# Altium footprint library Alt_git.PcbLib: 89 footprints (part 3 of 6)
Each footprint in its own frame and in the unit in brackets; x right, y up, seen from the top. Pads: shape width x height; smd on the part's side, far side on the other; paste and mask are expansions set on the pad; w line width, h text height; cw(c..) or ccw(c..) is an arc to the next point about the centre after c.
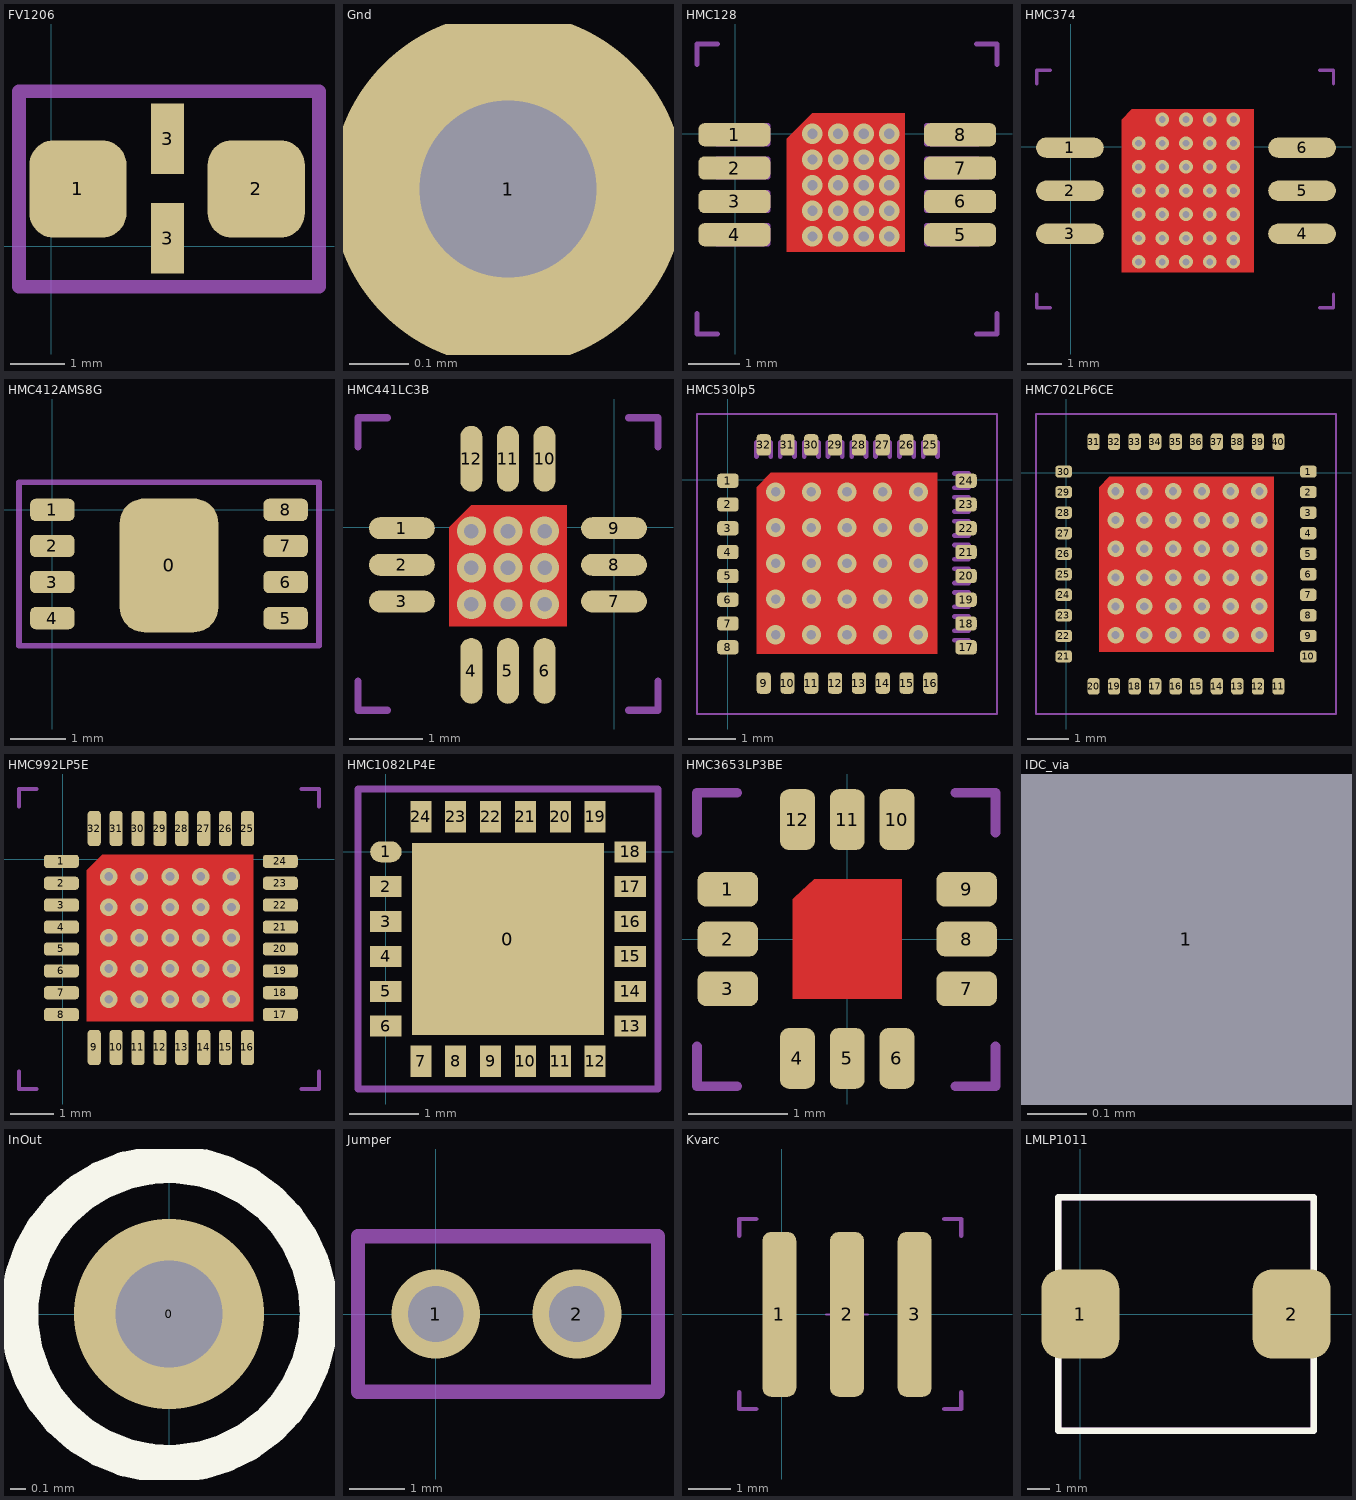
[diagram p2: the footprints below, top view; thin cyan lines are the x and y axes]

## FV1206 [mm]
pads (4):
  rrect50% 1.8x1.8 smd paste+0: 1(0.49,1.06) 2(3.79,1.06)
  rect 0.61x1.3 smd: 3(2.15,0.15) 3(2.15,1.99)
Mechanical 15:
  lines w0.254: 4.95,2.84 4.95,-0.75 -0.6,-0.75 -0.6,2.87 4.95,2.87
3D body: height 0.55, standoff 0, extent 0.57,0.24 3.67,1.84

## Gnd [mm]
pads (1):
  rect 0.2x0.2 smd paste+0: 1(0,0)
via 0,0 diameter 0.6 hole 0.3

## HMC128 [mm]
pads (8):
  rrect50% 1.4x0.45 smd: 1(-0.02,-0.017) 2(-0.02,-0.667) 3(-0.02,-1.317) 4(-0.02,-1.967) 5(4.38,-1.967) 6(4.38,-1.317) 7(4.38,-0.667) 8(4.38,-0.017)
via 1.5,0 diameter 0.4 hole 0.2
via 1.5,-1 diameter 0.4 hole 0.2
via 1.5,-0.5 diameter 0.4 hole 0.2
via 1.5,-1.5 diameter 0.4 hole 0.2
via 1.5,-2 diameter 0.4 hole 0.2
via 2,0 diameter 0.4 hole 0.2
via 2,-1 diameter 0.4 hole 0.2
via 2,-0.5 diameter 0.4 hole 0.2
via 2,-1.5 diameter 0.4 hole 0.2
via 2,-2 diameter 0.4 hole 0.2
via 2.5,0 diameter 0.4 hole 0.2
via 2.5,-1 diameter 0.4 hole 0.2
via 2.5,-0.5 diameter 0.4 hole 0.2
via 2.5,-1.5 diameter 0.4 hole 0.2
via 2.5,-2 diameter 0.4 hole 0.2
via 3,-2 diameter 0.4 hole 0.2
via 3,-1.5 diameter 0.4 hole 0.2
via 3,-0.5 diameter 0.4 hole 0.2
via 3,-1 diameter 0.4 hole 0.2
via 3,0 diameter 0.4 hole 0.2
Top Layer:
  region: 3.3,-2.3 3.3,0.4 1.5,0.4 1,-0.1 1,-2.3
Mechanical 4:
  lines w0.1: -0.37,-2.142 -0.37,-1.792 0.63,-1.792 0.63,-2.142 -0.37,-2.142 ; -0.37,-1.492 -0.37,-1.142 0.63,-1.142 0.63,-1.492 -0.37,-1.492 ; -0.37,-0.842 -0.37,-0.492 0.63,-0.492 0.63,-0.842 -0.37,-0.842 ; -0.37,-0.192 -0.37,0.158 0.63,0.158 0.63,-0.192 -0.37,-0.192 ; 3.73,-2.142 3.73,-1.792 4.73,-1.792 4.73,-2.142 3.73,-2.142 ; 3.73,-1.492 3.73,-1.142 4.73,-1.142 4.73,-1.492 3.73,-1.492 ; 3.73,-0.842 3.73,-0.492 4.73,-0.492 4.73,-0.842 3.73,-0.842 ; 3.73,-0.192 3.73,0.158 4.73,0.158 4.73,-0.192 3.73,-0.192
Mechanical 15:
  lines w0.1: -0.75,-3.5 -0.75,-3.9 -0.35,-3.9 ; -0.75,1.35 -0.75,1.75 -0.35,1.75 ; 4.7,-3.9 5.1,-3.9 5.1,-3.5 ; 4.7,1.75 5.1,1.75 5.1,1.35
3D body: height 1.5, standoff 0, extent 0.525,-2.65 3.825,0.65

## HMC374 [mm]
pads (6):
  oval 2x0.6 smd: 1(-0.025,-0.03) 2(-0.025,-1.3) 3(-0.025,-2.57) 4(6.825,-2.57) 5(6.825,-1.3) 6(6.825,-0.03)
via 4.8,-3.4 diameter 0.4 hole 0.2
via 4.8,-2.7 diameter 0.4 hole 0.2
via 4.8,-2 diameter 0.4 hole 0.2
via 4.8,-1.3 diameter 0.4 hole 0.2
via 4.8,-0.6 diameter 0.4 hole 0.2
via 4.8,0.1 diameter 0.4 hole 0.2
via 4.8,0.8 diameter 0.4 hole 0.2
via 4.1,0.8 diameter 0.4 hole 0.2
via 4.1,0.1 diameter 0.4 hole 0.2
via 4.1,-0.6 diameter 0.4 hole 0.2
via 4.1,-1.3 diameter 0.4 hole 0.2
via 4.1,-2 diameter 0.4 hole 0.2
via 4.1,-2.7 diameter 0.4 hole 0.2
via 4.1,-3.4 diameter 0.4 hole 0.2
via 3.4,0.8 diameter 0.4 hole 0.2
via 3.4,0.1 diameter 0.4 hole 0.2
via 3.4,-0.6 diameter 0.4 hole 0.2
via 3.4,-1.3 diameter 0.4 hole 0.2
via 3.4,-2 diameter 0.4 hole 0.2
via 3.4,-2.7 diameter 0.4 hole 0.2
via 3.4,-3.4 diameter 0.4 hole 0.2
via 2.7,0.8 diameter 0.4 hole 0.2
via 2.7,0.1 diameter 0.4 hole 0.2
via 2.7,-0.6 diameter 0.4 hole 0.2
via 2.7,-1.3 diameter 0.4 hole 0.2
via 2.7,-2 diameter 0.4 hole 0.2
via 2.7,-2.7 diameter 0.4 hole 0.2
via 2.7,-3.4 diameter 0.4 hole 0.2
via 2,0.1 diameter 0.4 hole 0.2
via 2,-0.6 diameter 0.4 hole 0.2
via 2,-1.3 diameter 0.4 hole 0.2
via 2,-2 diameter 0.4 hole 0.2
via 2,-2.7 diameter 0.4 hole 0.2
via 2,-3.4 diameter 0.4 hole 0.2
Top Layer:
  region: 5.4,-3.7 5.4,1.1 1.8,1.1 1.5,0.8 1.5,-3.7
Mechanical 15:
  lines w0.1: -1,-4.35 -1,-4.75 -0.6,-4.75 ; -1,1.85 -1,2.25 -0.6,2.25 ; 7.35,-4.75 7.75,-4.75 7.75,-4.35 ; 7.35,2.25 7.75,2.25 7.75,1.85
3D body: height 1, standoff 0, extent 0,-4.05 6.8,1.45

## HMC412AMS8G [mm]
pads (9):
  rrect50% 1.78x2.41 smd paste+0: 0(2.1,-1)
  rrect50% 0.8x0.4 smd paste+0: 1(0,0) 2(0,-0.65) 3(0,-1.3) 4(0,-1.95) 5(4.2,-1.95) 6(4.2,-1.3) 7(4.2,-0.65) 8(4.2,0)
Mechanical 15:
  lines w0.1: -0.6,-2.45 4.8,-2.45 4.8,0.5 -0.6,0.5 -0.6,-2.45

## HMC441LC3B [mm]
pads (13):
  oval 0.9x0.3 smd: 1(-2.901,-0.011) 2(-2.901,-0.511) 3(-2.901,-1.011) 7(-0.001,-1.011) 8(-0.001,-0.511) 9(-0.001,-0.011)
  oval 0.3x0.9 smd: 4(-1.951,-1.961) 5(-1.451,-1.961) 6(-0.951,-1.961) 10(-0.951,0.939) 11(-1.451,0.939) 12(-1.951,0.939)
  round 0 smd paste-25.4 mask-25.4: 13(-1.401,-0.461)
via -1.95,-1.05 diameter 0.4 hole 0.2
via -1.45,-1.05 diameter 0.4 hole 0.2
via -0.95,-1.05 diameter 0.4 hole 0.2
via -1.95,-0.55 diameter 0.4 hole 0.2
via -1.45,-0.55 diameter 0.4 hole 0.2
via -0.95,-0.55 diameter 0.4 hole 0.2
via -1.95,-0.05 diameter 0.4 hole 0.2
via -1.45,-0.05 diameter 0.4 hole 0.2
via -0.95,-0.05 diameter 0.4 hole 0.2
Top Layer:
  region: -0.65,-1.35 -0.65,0.3 -1.95,0.3 -2.25,0 -2.25,-1.35
Mechanical 15:
  lines w0.1: -3.5,-2.1 -3.5,-2.5 -3.1,-2.5 ; -3.5,1.1 -3.5,1.5 -3.1,1.5 ; 0.2,-2.5 0.6,-2.5 0.6,-2.1 ; 0.2,1.5 0.6,1.5 0.6,1.1
BrdComp:
  lines w0.05: -1.901,-0.461 -0.901,-0.461 ; -1.401,-0.961 -1.401,0.039

## HMC530lp5 [mm]
pads (33):
  rrect50% 0.45x0.3 smd: 1(0,-0.014) 2(0,-0.514) 3(0,-1.014) 4(0,-1.514) 5(0,-2.014) 6(0,-2.514) 7(0,-3.014) 8(0,-3.514) 17(5,-3.514) 18(5,-3.014) 19(5,-2.514) 20(5,-2.014) 21(5,-1.514) 22(5,-1.014) 23(5,-0.514) 24(5,-0.014)
  rrect50% 0.3x0.45 smd: 9(0.75,-4.264) 10(1.25,-4.264) 11(1.75,-4.264) 12(2.25,-4.264) 13(2.75,-4.264) 14(3.25,-4.264) 15(3.75,-4.264) 16(4.25,-4.264) 25(4.25,0.736) 26(3.75,0.736) 27(3.25,0.736) 28(2.75,0.736) 29(2.25,0.736) 30(1.75,0.736) 31(1.25,0.736) 32(0.75,0.736)
  round 0 smd paste-25.4 mask-25.4: 33(2.4,-1.864)
via 4,-0.25 diameter 0.4 hole 0.2
via 4,-1 diameter 0.4 hole 0.2
via 4,-1.75 diameter 0.4 hole 0.2
via 4,-2.5 diameter 0.4 hole 0.2
via 4,-3.25 diameter 0.4 hole 0.2
via 3.25,-3.25 diameter 0.4 hole 0.2
via 3.25,-2.5 diameter 0.4 hole 0.2
via 3.25,-1.75 diameter 0.4 hole 0.2
via 3.25,-1 diameter 0.4 hole 0.2
via 3.25,-0.25 diameter 0.4 hole 0.2
via 2.5,-0.25 diameter 0.4 hole 0.2
via 1,-0.25 diameter 0.4 hole 0.2
via 2.5,-1 diameter 0.4 hole 0.2
via 2.5,-1.75 diameter 0.4 hole 0.2
via 2.5,-2.5 diameter 0.4 hole 0.2
via 2.5,-3.25 diameter 0.4 hole 0.2
via 1.75,-0.25 diameter 0.4 hole 0.2
via 1.75,-1 diameter 0.4 hole 0.2
via 1.75,-1.75 diameter 0.4 hole 0.2
via 1.75,-2.5 diameter 0.4 hole 0.2
via 1.75,-3.25 diameter 0.4 hole 0.2
via 1,-1 diameter 0.4 hole 0.2
via 1,-1.75 diameter 0.4 hole 0.2
via 1,-2.5 diameter 0.4 hole 0.2
via 1,-3.25 diameter 0.4 hole 0.2
Top Layer:
  region: 4.4,-3.65 4.4,0.15 0.9,0.15 0.6,-0.15 0.6,-3.65
Mechanical 4:
  lines w0.1: 0.6,0.486 0.6,0.786 ; 0.9,0.486 0.9,0.786 ; 1.1,0.486 1.1,0.786 ; 1.4,0.486 1.4,0.786 ; 1.6,0.486 1.6,0.786 ; 1.9,0.486 1.9,0.786 ; 2.1,0.486 2.1,0.786 ; 2.4,0.486 2.4,0.786 ; 2.6,0.486 2.6,0.786 ; 2.9,0.486 2.9,0.786 ; 3.1,0.486 3.1,0.786 ; 3.4,0.486 3.4,0.786 ; 3.6,0.486 3.6,0.786 ; 3.9,0.486 3.9,0.786 ; 4.1,0.486 4.1,0.786 ; 4.4,0.486 4.4,0.786 ; 4.75,-3.364 5.05,-3.364 ; 4.75,-3.164 5.05,-3.164 ; 4.75,-2.864 5.05,-2.864 ; 4.75,-2.664 5.05,-2.664 ; 4.75,-2.364 5.05,-2.364 ; 4.75,-2.164 5.05,-2.164 ; 4.75,-1.864 5.05,-1.864 ; 4.75,-1.664 5.05,-1.664 ; 4.75,-1.364 5.05,-1.364 ; 4.75,-1.164 5.05,-1.164 ; 4.75,-0.864 5.05,-0.864 ; 4.75,-0.664 5.05,-0.664 ; 4.75,-0.364 5.05,-0.364 ; 4.75,-0.164 5.05,-0.164 ; 4.75,0.136 5.05,0.136
BrdComp:
  lines w0.05: -0.65,-4.914 -0.65,1.386 5.65,1.386 5.65,-4.914 -0.65,-4.914
3D body: height 0.9, standoff 0, extent -0.55,-4.8 5.55,1.3

## HMC702LP6CE [mm]
pads (42):
  rrect50% 0.4x0.3 smd: 1(5.889,0.031) 2(5.889,-0.469) 3(5.889,-0.969) 4(5.889,-1.469) 5(5.889,-1.969) 6(5.889,-2.469) 7(5.889,-2.969) 8(5.889,-3.469) 9(5.889,-3.969) 10(5.889,-4.469) 21(-0.061,-4.469) 22(-0.061,-3.969) 23(-0.061,-3.469) 24(-0.061,-2.969) 25(-0.061,-2.469) 26(-0.061,-1.969) 27(-0.061,-1.469) 28(-0.061,-0.969) 29(-0.061,-0.469) 30(-0.061,0.031)
  rrect50% 0.3x0.4 smd: 11(5.164,-5.194) 12(4.664,-5.194) 13(4.164,-5.194) 14(3.664,-5.194) 15(3.164,-5.194) 16(2.664,-5.194) 17(2.164,-5.194) 18(1.664,-5.194) 19(1.164,-5.194) 20(0.664,-5.194) 31(0.664,0.756) 32(1.164,0.756) 33(1.664,0.756) 34(2.164,0.756) 35(2.664,0.756) 36(3.164,0.756) 37(3.664,0.756) 38(4.164,0.756) 39(4.664,0.756) 40(5.164,0.756)
  round 0 smd paste-25.4 mask-25.4: 33(3.2,-1.964) 41(3.014,-2.119)
via 4.7,-0.45 diameter 0.4 hole 0.2
via 4.7,-1.15 diameter 0.4 hole 0.2
via 4.7,-1.85 diameter 0.4 hole 0.2
via 4.7,-2.55 diameter 0.4 hole 0.2
via 4.7,-3.25 diameter 0.4 hole 0.2
via 4,-3.25 diameter 0.4 hole 0.2
via 4,-2.55 diameter 0.4 hole 0.2
via 4,-1.85 diameter 0.4 hole 0.2
via 4,-1.15 diameter 0.4 hole 0.2
via 4,-0.45 diameter 0.4 hole 0.2
via 3.3,-0.45 diameter 0.4 hole 0.2
via 3.3,-1.15 diameter 0.4 hole 0.2
via 3.3,-1.85 diameter 0.4 hole 0.2
via 3.3,-2.55 diameter 0.4 hole 0.2
via 3.3,-3.25 diameter 0.4 hole 0.2
via 2.6,-0.45 diameter 0.4 hole 0.2
via 2.6,-1.15 diameter 0.4 hole 0.2
via 2.6,-1.85 diameter 0.4 hole 0.2
via 2.6,-2.55 diameter 0.4 hole 0.2
via 2.6,-3.25 diameter 0.4 hole 0.2
via 1.9,-1.15 diameter 0.4 hole 0.2
via 1.9,-1.85 diameter 0.4 hole 0.2
via 1.9,-2.55 diameter 0.4 hole 0.2
via 1.9,-3.25 diameter 0.4 hole 0.2
via 4.7,-3.95 diameter 0.4 hole 0.2
via 1.9,-3.95 diameter 0.4 hole 0.2
via 2.6,-3.95 diameter 0.4 hole 0.2
via 3.3,-3.95 diameter 0.4 hole 0.2
via 4,-3.95 diameter 0.4 hole 0.2
via 1.9,-0.45 diameter 0.4 hole 0.2
via 1.2,-0.45 diameter 0.4 hole 0.2
via 1.2,-3.95 diameter 0.4 hole 0.2
via 1.2,-3.25 diameter 0.4 hole 0.2
via 1.2,-2.55 diameter 0.4 hole 0.2
via 1.2,-1.85 diameter 0.4 hole 0.2
via 1.2,-1.15 diameter 0.4 hole 0.2
Top Layer:
  region: 5.05,-4.35 5.05,-0.1 1.05,-0.1 0.8,-0.35 0.8,-4.35
BrdComp:
  lines w0.05: -0.736,-5.869 6.564,-5.869 6.564,1.431 -0.736,1.431 -0.736,-5.869
3D body: height 0.9, standoff 0, extent -0.15,-5.25 5.95,0.85

## HMC992LP5E [mm]
pads (35):
  rrect50% 0.8x0.3 smd: 1(-0.033,-0.052) 2(-0.033,-0.552) 3(-0.033,-1.052) 4(-0.033,-1.552) 5(-0.033,-2.052) 6(-0.033,-2.552) 7(-0.033,-3.052) 8(-0.033,-3.552) 17(4.967,-3.552) 18(4.967,-3.052) 19(4.967,-2.552) 20(4.967,-2.052) 21(4.967,-1.552) 22(4.967,-1.052) 23(4.967,-0.552) 24(4.967,-0.052)
  rrect50% 0.3x0.8 smd: 9(0.717,-4.302) 10(1.217,-4.302) 11(1.717,-4.302) 12(2.217,-4.302) 13(2.717,-4.302) 14(3.217,-4.302) 15(3.717,-4.302) 16(4.217,-4.302) 25(4.217,0.698) 26(3.717,0.698) 27(3.217,0.698) 28(2.717,0.698) 29(2.217,0.698) 30(1.717,0.698) 31(1.217,0.698) 32(0.717,0.698)
  round 0 smd paste-25.4 mask-25.4: 33(2.417,-1.852) 33(3.05,-1.914) 41(2.864,-2.069)
via 1.05,-1.1 diameter 0.4 hole 0.2
via 1.05,-1.8 diameter 0.4 hole 0.2
via 1.05,-2.5 diameter 0.4 hole 0.2
via 1.05,-3.2 diameter 0.4 hole 0.2
via 1.05,-0.4 diameter 0.4 hole 0.2
via 1.75,-0.4 diameter 0.4 hole 0.2
via 1.75,-3.2 diameter 0.4 hole 0.2
via 1.75,-2.5 diameter 0.4 hole 0.2
via 1.75,-1.8 diameter 0.4 hole 0.2
via 1.75,-1.1 diameter 0.4 hole 0.2
via 2.45,-3.2 diameter 0.4 hole 0.2
via 2.45,-2.5 diameter 0.4 hole 0.2
via 2.45,-1.8 diameter 0.4 hole 0.2
via 2.45,-1.1 diameter 0.4 hole 0.2
via 2.45,-0.4 diameter 0.4 hole 0.2
via 3.15,-3.2 diameter 0.4 hole 0.2
via 3.15,-2.5 diameter 0.4 hole 0.2
via 3.15,-1.8 diameter 0.4 hole 0.2
via 3.15,-1.1 diameter 0.4 hole 0.2
via 3.15,-0.4 diameter 0.4 hole 0.2
via 3.85,-0.4 diameter 0.4 hole 0.2
via 3.85,-1.1 diameter 0.4 hole 0.2
via 3.85,-1.8 diameter 0.4 hole 0.2
via 3.85,-2.5 diameter 0.4 hole 0.2
via 3.85,-3.2 diameter 0.4 hole 0.2
Top Layer:
  region: 4.35,-3.7 4.35,0.1 0.9,0.1 0.55,-0.25 0.55,-3.7
Mechanical 15:
  lines w0.1: -1,-4.85 -1,-5.25 -0.6,-5.25 ; -1,1.2 -1,1.6 -0.6,1.6 ; 5.45,-5.25 5.85,-5.25 5.85,-4.85 ; 5.45,1.6 5.85,1.6 5.85,1.2
3D body: height 1, standoff 0, extent -0.1,-4.35 5,0.75

## HMC1082LP4E [mm]
pads (25):
  rect 2.75x2.75 smd mask+0: 0(1.75,-1.25)
  oval 0.45x0.3 smd mask+0: 1(0,0)
  rect 0.45x0.3 smd mask+0: 2(0,-0.5) 3(0,-1) 4(0,-1.5) 5(0,-2) 6(0,-2.5) 13(3.5,-2.5) 14(3.5,-2) 15(3.5,-1.5) 16(3.5,-1) 17(3.5,-0.5) 18(3.5,0)
  rect 0.3x0.45 smd mask+0: 7(0.5,-3) 8(1,-3) 9(1.5,-3) 10(2,-3) 11(2.5,-3) 12(3,-3) 19(3,0.5) 20(2.5,0.5) 21(2,0.5) 22(1.5,0.5) 23(1,0.5) 24(0.5,0.5)
Mechanical 15:
  lines w0.1: -0.4,-3.4 -0.4,0.9 3.9,0.9 3.9,-3.4 -0.4,-3.4

## HMC3653LP3BE [mm]
pads (12):
  rrect50% 0.61x0.35 smd mask+0: 1(-1.2,0.5) 9(1.2,0.5)
  rrect50% 0.61x0.35 smd paste+0 mask+0: 2(-1.2,0) 3(-1.2,-0.5) 7(1.2,-0.5) 8(1.2,0)
  rrect50% 0.35x0.61 smd mask+0: 4(-0.5,-1.2) 5(0,-1.2) 6(0.5,-1.2) 10(0.5,1.2) 11(0,1.2) 12(-0.5,1.2)
Top Layer:
  region: 0.55,0.6 0.55,-0.6 -0.55,-0.6 -0.55,0.4 -0.53,0.42 -0.33,0.6
Mechanical 15:
  lines w0.1: -1.51,-1.08 -1.51,-1.48 -1.11,-1.48 ; -1.51,1.07 -1.51,1.47 -1.11,1.47 ; 1.09,-1.48 1.49,-1.48 1.49,-1.08 ; 1.09,1.47 1.49,1.47 1.49,1.07
3D body: height 1, standoff 0, extent -1.51,-1.48 1.49,1.52

## IDC_via [mm]
pads (1):
  rect 0.3x0.4 smd: 1(0,0)
via 0,0 diameter 1.4 hole 0.8

## InOut [mm]
pads (1):
  rect 0.1x0.1 smd paste+0: 0(0,0)
via 0,0 diameter 1.27 hole 0.711
Top Overlay:
  circle w0.254: c0,0 r1
3D body: height 1.27, standoff 0, extent -1.127,-1.127 1.127,1.127

## Jumper [mm]
pads (2):
  rect 0.5x0.5 smd paste+0: 1(0,0) 2(2.54,0)
via 0,0 diameter 1.6 hole 1
via 2.54,0 diameter 1.6 hole 1
Mechanical 15:
  lines w0.254: -1.4,-1.4 4,-1.4 4,1.4 -1.4,1.4 -1.4,-1.4
3D body: height 7, standoff -0.5, extent -1.2,-1.2 3.8,1.2

## Kvarc [mm]
pads (3):
  rrect50% 0.8x3.9 smd: 1(-0.052,-0.01) 2(1.548,-0.01) 3(3.148,-0.01)
Mechanical 15:
  lines w0.1: -1,-1.85 -1,-2.25 -0.6,-2.25 ; -1,1.85 -1,2.25 -0.6,2.25 ; 3.85,-2.25 4.25,-2.25 4.25,-1.85 ; 3.85,2.25 4.25,2.25 4.25,1.85
BrdComp:
  lines w0.05: 1.048,-0.01 2.048,-0.01 ; 1.548,-0.51 1.548,0.49
3D body: height 2, standoff 0, extent -0.7,-1.6 3.8,1.6

## LMLP1011 [mm] "AVX LMLP Style D Inductor"
height 4
pads (2):
  rrect50% 3.5x4 smd: 1(0,0) 2(9.5,0)
Top Overlay:
  lines w0.3: -1,-5.25 10.5,-5.25 10.5,5.25 -1,5.25 -1,-5.25
IND_top:
  lines w0.3: -1,-5.25 10.5,-5.25 10.5,5.25 -1,5.25 -1,-5.25